# Altium integrated library Motor Drivers.IntLib: 7 symbols
Pins are listed as number, name and electrical type; pins without a type are passive.

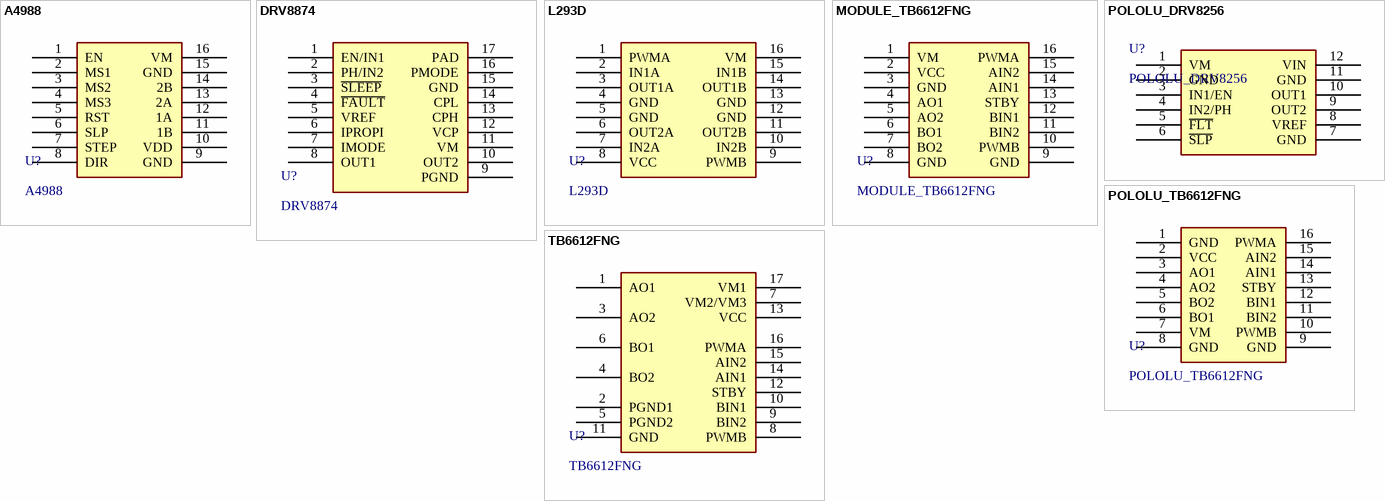
[diagram p0: symbols A4988 to TB6612FNG]

## A4988
designator U?
Module Stepper Motor Driver 8-35V 2A 20x15mm; ComponentLink1Description: Datasheet; ComponentLink1URL: https://www.pololu.com/file/0J450/a4988_DMOS_microstepping_driver_with_translator.pdf
footprint A4988 (Module Stepper Motor Driver 8-35V 2A 20x15mm)
pins: 1 EN, 2 MS1, 3 MS2, 4 MS3, 5 RST, 6 SLP, 7 STEP, 8 DIR, 9 GND, 10 VDD, 11 1B, 12 1A, 13 2A, 14 2B, 15 GND, 16 VM

## DRV8874
designator U?
Single Motor Driver w/ Current Sensor 4.5-37V 1.9A Continous 6A Peak 16-HTSSOP; ComponentLink1Description: Datasheet; ComponentLink1URL: https://www.ti.com/lit/ds/symlink/drv8874.pdf?HQS=dis-mous-null-mousermode-dsf-pf-null-wwe&ts=1673572731390&ref_url=https%253A%252F%252Fwww.mouser.com%252F; Digikey PN: 296-DRV8874PWPRCT-ND; Mouser PN: 595-DRV8874PWPR; JLCPCB PN: C1855818
footprint DRV8874 (Single Motor Driver w/ Current Sensor 4.5-37V 6A Peak 16-HTSSOP)
pins: 1 EN/IN1, 2 PH/IN2, 3 ~{SLEEP}, 4 ~{FAULT}, 5 VREF, 6 IPROPI, 7 IMODE, 8 OUT1, 9 PGND, 10 OUT2, 11 VM, 12 VCP, 13 CPH, 14 CPL, 15 GND, 16 PMODE, 17 PAD

## L293D
designator U?
Dual Motor Driver 4.5-36V 0.6A Continous 1.2A Peak DIP-16; ComponentLink1Description: Datasheet; ComponentLink1URL: https://www.mouser.com/datasheet/2/389/l293d-1849134.pdf; Mouser PN: 511-L293D; Digikey PN: 497-2936-5-ND; JLCPCB PN: C12340
footprint L293D (Dual Motor Driver 4.5-36V 1.2A Peak DIP-16)
pins: 1 PWMA, 2 IN1A, 3 OUT1A, 4 GND, 5 GND, 6 OUT2A, 7 IN2A, 8 VCC, 9 PWMB, 10 IN2B, 11 OUT2B, 12 GND, 13 GND, 14 OUT1B, 15 IN1B, 16 VM

## MODULE_TB6612FNG
designator U?
Module Dual Motor Driver 2.5-13.5V 3.2A Peak 21x18mm; ComponentLink1Description: Datasheet; ComponentLink1URL: https://www.mouser.com/datasheet/2/408/TB6612FNG_datasheet_en_20141001-708260.pdf
footprint MODULE_TB6612FNG (Module Dual Motor Driver 2.5-13.5V 3.2A Peak 21x18mm)
pins: 1 VM, 2 VCC, 3 GND, 4 AO1, 5 AO2, 6 BO1, 7 BO2, 8 GND, 9 GND, 10 PWMB, 11 BIN2, 12 BIN1, 13 STBY, 14 AIN1, 15 AIN2, 16 PWMA

## POLOLU_DRV8256
designator U?
Module Single Motor Driver w/ Current Sensor 4.5-48V 6.4A Peak 15.2x15.2mm; Datasheet: https://www.mouser.com/datasheet/2/408/TB6612FNG_datasheet_en_20141001-708260.pdf
footprint POLOLU_DRV8256 (Module Single Motor Driver w/ Current Sensor 4.5-48V 6.4A Peak 15.2x15.2mm)
pins: 1 VM, 2 GND, 3 IN1/EN, 4 IN2/PH, 5 ~{FLT}, 6 ~{SLP}, 7 GND, 8 VREF, 9 OUT2, 10 OUT1, 11 GND, 12 VIN

## POLOLU_TB6612FNG
designator U?
Module Dual Motor Driver 4.5-13.5V 3A Peak 20x15mm; ComponentLink1Description: Datasheet; ComponentLink1URL: https://www.mouser.com/datasheet/2/408/TB6612FNG_datasheet_en_20141001-708260.pdf
footprint POLOLU_TB6612FNG (Module Dual Motor Driver 4.5-13.5V 3A Peak 20x15mm)
pins: 1 GND, 2 VCC, 3 AO1, 4 AO2, 5 BO2, 6 BO1, 7 VM, 8 GND, 9 GND, 10 PWMB, 11 BIN2, 12 BIN1, 13 STBY, 14 AIN1, 15 AIN2, 16 PWMA

## TB6612FNG
designator U?
Dual Motor Driver 2.7-5.5V Logic 2.5-13.5V Motor 1A Continuos 3.2A Peak SSOP24; ComponentLink1Description: Datasheet; ComponentLink1URL: https://www.mouser.com/datasheet/2/408/TB6612FNG_datasheet_en_20141001-708260.pdf; Mouser PN: 757-TB6612FNGC8EL; Digikey PN: TB6612FNGC8ELCT-ND; JLCPCB PN: C141517
footprint TB6612FNG (Dual Motor Driver 2.5-13.5V 3.2A Peak SSOP24-P-300-0.65A)
pins: 1 AO1, 2 PGND1, 3 AO2, 4 BO2, 5 PGND2, 6 BO1, 7 VM2/VM3, 8 PWMB, 9 BIN2, 10 BIN1, 11 GND, 12 STBY, 13 VCC, 14 AIN1, 15 AIN2, 16 PWMA, 17 VM1